# Altium schematic symbol library 东软载波.SchLib: 6 symbols
Pins are listed as number, name and electrical type; pins without a type are passive.

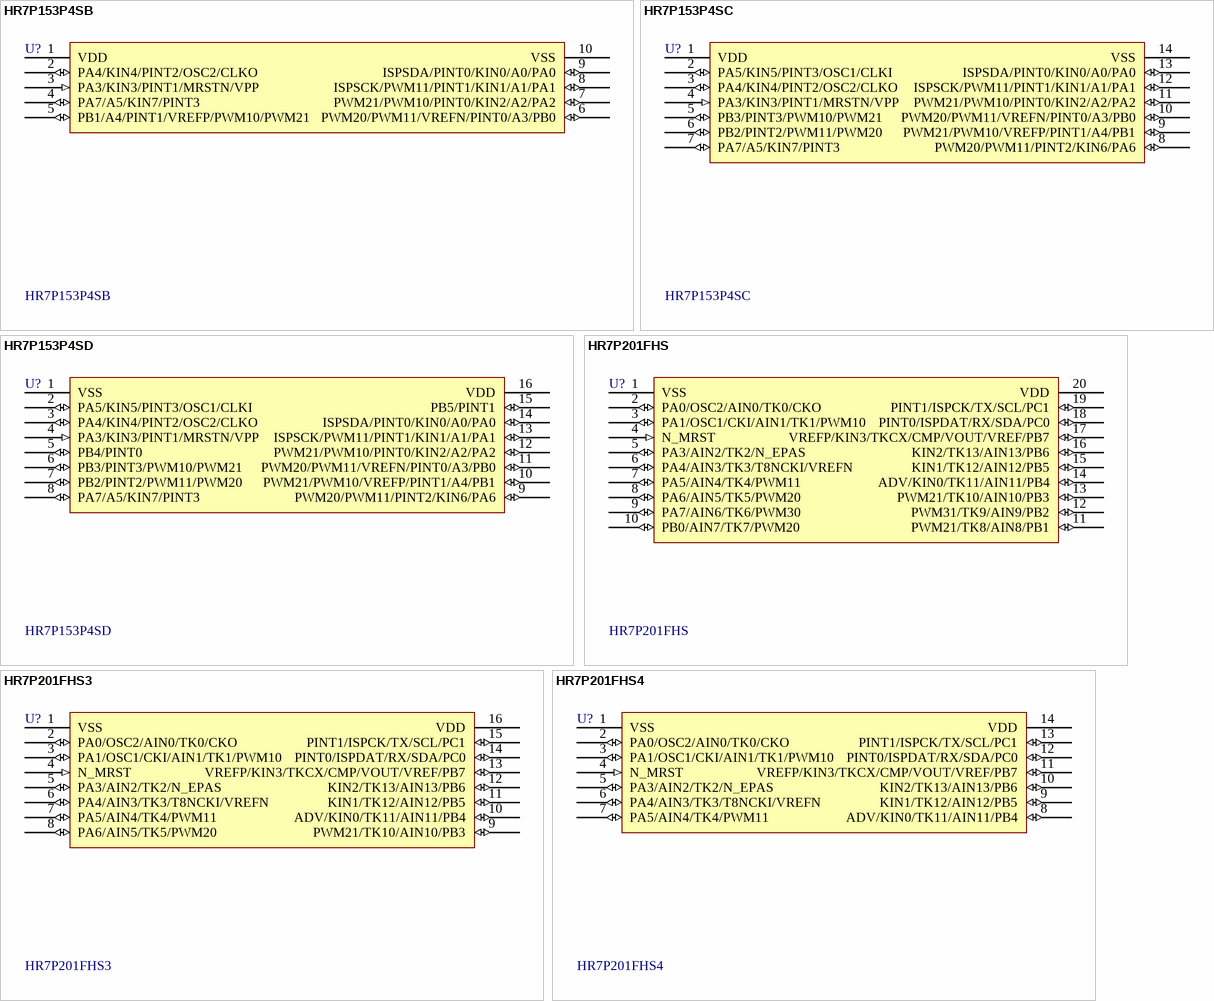
[diagram p0: symbols HR7P153P4SB to HR7P201FHS4]

## HR7P153P4SB
designator U?
OTP: 2K,     RAM: 64B,  IO: 8; BOM名称: 8位东软载波MCU; 版权归属: 源创客; 描述: Flash: 18K,     RAM: 1K,  IO: 8; 学习资源: www.ooocke.com
footprint MSOP10_N (塑封体长3mm，宽3mm，脚距0.5)
footprint MSOP10_L (塑封体长3mm，宽3mm，脚距0.5)
footprint MSOP10_M (塑封体长3mm，宽3mm，脚距0.5)
pins: 1 VDD (power), 2 PA4/KIN4/PINT2/OSC2/CLKO (io), 3 PA3/KIN3/PINT1/MRSTN/VPP (in), 4 PA7/A5/KIN7/PINT3 (io), 5 PB1/A4/PINT1/VREFP/PWM10/PWM21 (io), 6 PWM20/PWM11/VREFN/PINT0/A3/PB0 (io), 7 PWM21/PWM10/PINT0/KIN2/A2/PA2 (io), 8 ISPSCK/PWM11/PINT1/KIN1/A1/PA1 (io), 9 ISPSDA/PINT0/KIN0/A0/PA0 (io), 10 VSS (power)

## HR7P153P4SC
designator U?
OTP: 2K,     RAM: 64B,  IO: 12; BOM名称: 8位东软载波MCU; 版权归属: 源创客; 描述: Flash: 18K,     RAM: 1K,  IO: 18; 学习资源: www.ooocke.com
footprint SOP14_N (8.7*6.2*1.8mm（长宽高）)
footprint SOP14_L (8.7*6.2*1.8mm（长宽高）)
footprint SOP14_M (8.7*6.2*1.8mm（长宽高）)
pins: 1 VDD (power), 2 PA5/KIN5/PINT3/OSC1/CLKI (io), 3 PA4/KIN4/PINT2/OSC2/CLKO (io), 4 PA3/KIN3/PINT1/MRSTN/VPP (in), 5 PB3/PINT3/PWM10/PWM21 (io), 6 PB2/PINT2/PWM11/PWM20 (io), 7 PA7/A5/KIN7/PINT3 (io), 8 PWM20/PWM11/PINT2/KIN6/PA6 (io), 9 PWM21/PWM10/VREFP/PINT1/A4/PB1 (io), 10 PWM20/PWM11/VREFN/PINT0/A3/PB0 (io), 11 PWM21/PWM10/PINT0/KIN2/A2/PA2 (io), 12 ISPSCK/PWM11/PINT1/KIN1/A1/PA1 (io), 13 ISPSDA/PINT0/KIN0/A0/PA0 (io), 14 VSS (power)

## HR7P153P4SD
designator U?
OTP: 2K,     RAM: 64B,  IO: 14; BOM名称: 8位东软载波MCU; 版权归属: 源创客; 学习资源: www.ooocke.com; 描述: OTP: 2K,     RAM: 64B,  IO: 14
footprint SOP16_N (10.3*6.2*1.8mm（长宽高）)
footprint SOP16_L (10.3*6.2*1.8mm（长宽高）)
footprint SOP16_M (10.3*6.2*1.8mm（长宽高）)
pins: 1 VSS (power), 2 PA5/KIN5/PINT3/OSC1/CLKI (io), 3 PA4/KIN4/PINT2/OSC2/CLKO (io), 4 PA3/KIN3/PINT1/MRSTN/VPP (in), 5 PB4/PINT0 (io), 6 PB3/PINT3/PWM10/PWM21 (io), 7 PB2/PINT2/PWM11/PWM20 (io), 8 PA7/A5/KIN7/PINT3 (io), 9 PWM20/PWM11/PINT2/KIN6/PA6 (io), 10 PWM21/PWM10/VREFP/PINT1/A4/PB1 (io), 11 PWM20/PWM11/VREFN/PINT0/A3/PB0 (io), 12 PWM21/PWM10/PINT0/KIN2/A2/PA2 (io), 13 ISPSCK/PWM11/PINT1/KIN1/A1/PA1 (io), 14 ISPSDA/PINT0/KIN0/A0/PA0 (io), 15 PB5/PINT1 (io), 16 VDD (power)

## HR7P201FHS
designator U?
FLASH: 16K,     RAM: 1K,  IO: 17; BOM名称: 8位东软载波MCU; 版权归属: 源创客; 描述: OTP: 2K,     RAM: 64B,  IO: 14; 学习资源: www.ooocke.com
footprint SOP20_N (13*10.6*2.6（长宽高）)
footprint SOP20_L (13*10.6*2.6（长宽高）)
footprint SOP20_M (13*10.6*2.6（长宽高）)
pins: 1 VSS (power), 2 PA0/OSC2/AIN0/TK0/CKO (io), 3 PA1/OSC1/CKI/AIN1/TK1/PWM10 (io), 4 N_MRST (in), 5 PA3/AIN2/TK2/N_EPAS (io), 6 PA4/AIN3/TK3/T8NCKI/VREFN (io), 7 PA5/AIN4/TK4/PWM11 (io), 8 PA6/AIN5/TK5/PWM20 (io), 9 PA7/AIN6/TK6/PWM30 (io), 10 PB0/AIN7/TK7/PWM20 (io), 11 PWM21/TK8/AIN8/PB1 (io), 12 PWM31/TK9/AIN9/PB2 (io), 13 PWM21/TK10/AIN10/PB3 (io), 14 ADV/KIN0/TK11/AIN11/PB4 (io), 15 KIN1/TK12/AIN12/PB5 (io), 16 KIN2/TK13/AIN13/PB6 (io), 17 VREFP/KIN3/TKCX/CMP/VOUT/VREF/PB7 (io), 18 PINT0/ISPDAT/RX/SDA/PC0 (io), 19 PINT1/ISPCK/TX/SCL/PC1 (io), 20 VDD (power)

## HR7P201FHS3
designator U?
FLASH: 16K,     RAM: 1K,  IO: 17; BOM名称: 8位东软载波MCU; 版权归属: 源创客; 描述: OTP: 2K,     RAM: 64B,  IO: 14; 学习资源: www.ooocke.com
footprint SOP16_N (10.3*6.2*1.8mm（长宽高）)
footprint SOP16_L (10.3*6.2*1.8mm（长宽高）)
footprint SOP16_M (10.3*6.2*1.8mm（长宽高）)
pins: 1 VSS (power), 2 PA0/OSC2/AIN0/TK0/CKO (io), 3 PA1/OSC1/CKI/AIN1/TK1/PWM10 (io), 4 N_MRST (in), 5 PA3/AIN2/TK2/N_EPAS (io), 6 PA4/AIN3/TK3/T8NCKI/VREFN (io), 7 PA5/AIN4/TK4/PWM11 (io), 8 PA6/AIN5/TK5/PWM20 (io), 9 PWM21/TK10/AIN10/PB3 (io), 10 ADV/KIN0/TK11/AIN11/PB4 (io), 11 KIN1/TK12/AIN12/PB5 (io), 12 KIN2/TK13/AIN13/PB6 (io), 13 VREFP/KIN3/TKCX/CMP/VOUT/VREF/PB7 (io), 14 PINT0/ISPDAT/RX/SDA/PC0 (io), 15 PINT1/ISPCK/TX/SCL/PC1 (io), 16 VDD (power)

## HR7P201FHS4
designator U?
FLASH: 16K,     RAM: 1K,  IO: 17; BOM名称: 8位东软载波MCU; 版权归属: 源创客; 描述: OTP: 2K,     RAM: 64B,  IO: 14; 学习资源: www.ooocke.com
footprint SOP14_N (8.7*6.2*1.8mm（长宽高）)
footprint SOP14_L (8.7*6.2*1.8mm（长宽高）)
footprint SOP14_M (8.7*6.2*1.8mm（长宽高）)
pins: 1 VSS (power), 2 PA0/OSC2/AIN0/TK0/CKO (io), 3 PA1/OSC1/CKI/AIN1/TK1/PWM10 (io), 4 N_MRST (in), 5 PA3/AIN2/TK2/N_EPAS (io), 6 PA4/AIN3/TK3/T8NCKI/VREFN (io), 7 PA5/AIN4/TK4/PWM11 (io), 8 ADV/KIN0/TK11/AIN11/PB4 (io), 9 KIN1/TK12/AIN12/PB5 (io), 10 KIN2/TK13/AIN13/PB6 (io), 11 VREFP/KIN3/TKCX/CMP/VOUT/VREF/PB7 (io), 12 PINT0/ISPDAT/RX/SDA/PC0 (io), 13 PINT1/ISPCK/TX/SCL/PC1 (io), 14 VDD (power)